# Altium footprint library Passives.PcbLib: 126 footprints (part 6 of 8)
Each footprint in its own frame and in the unit in brackets; x right, y up, seen from the top. Pads: shape width x height; smd on the part's side, far side on the other; paste and mask are expansions set on the pad; w line width, h text height; cw(c..) or ccw(c..) is an arc to the next point about the centre after c.
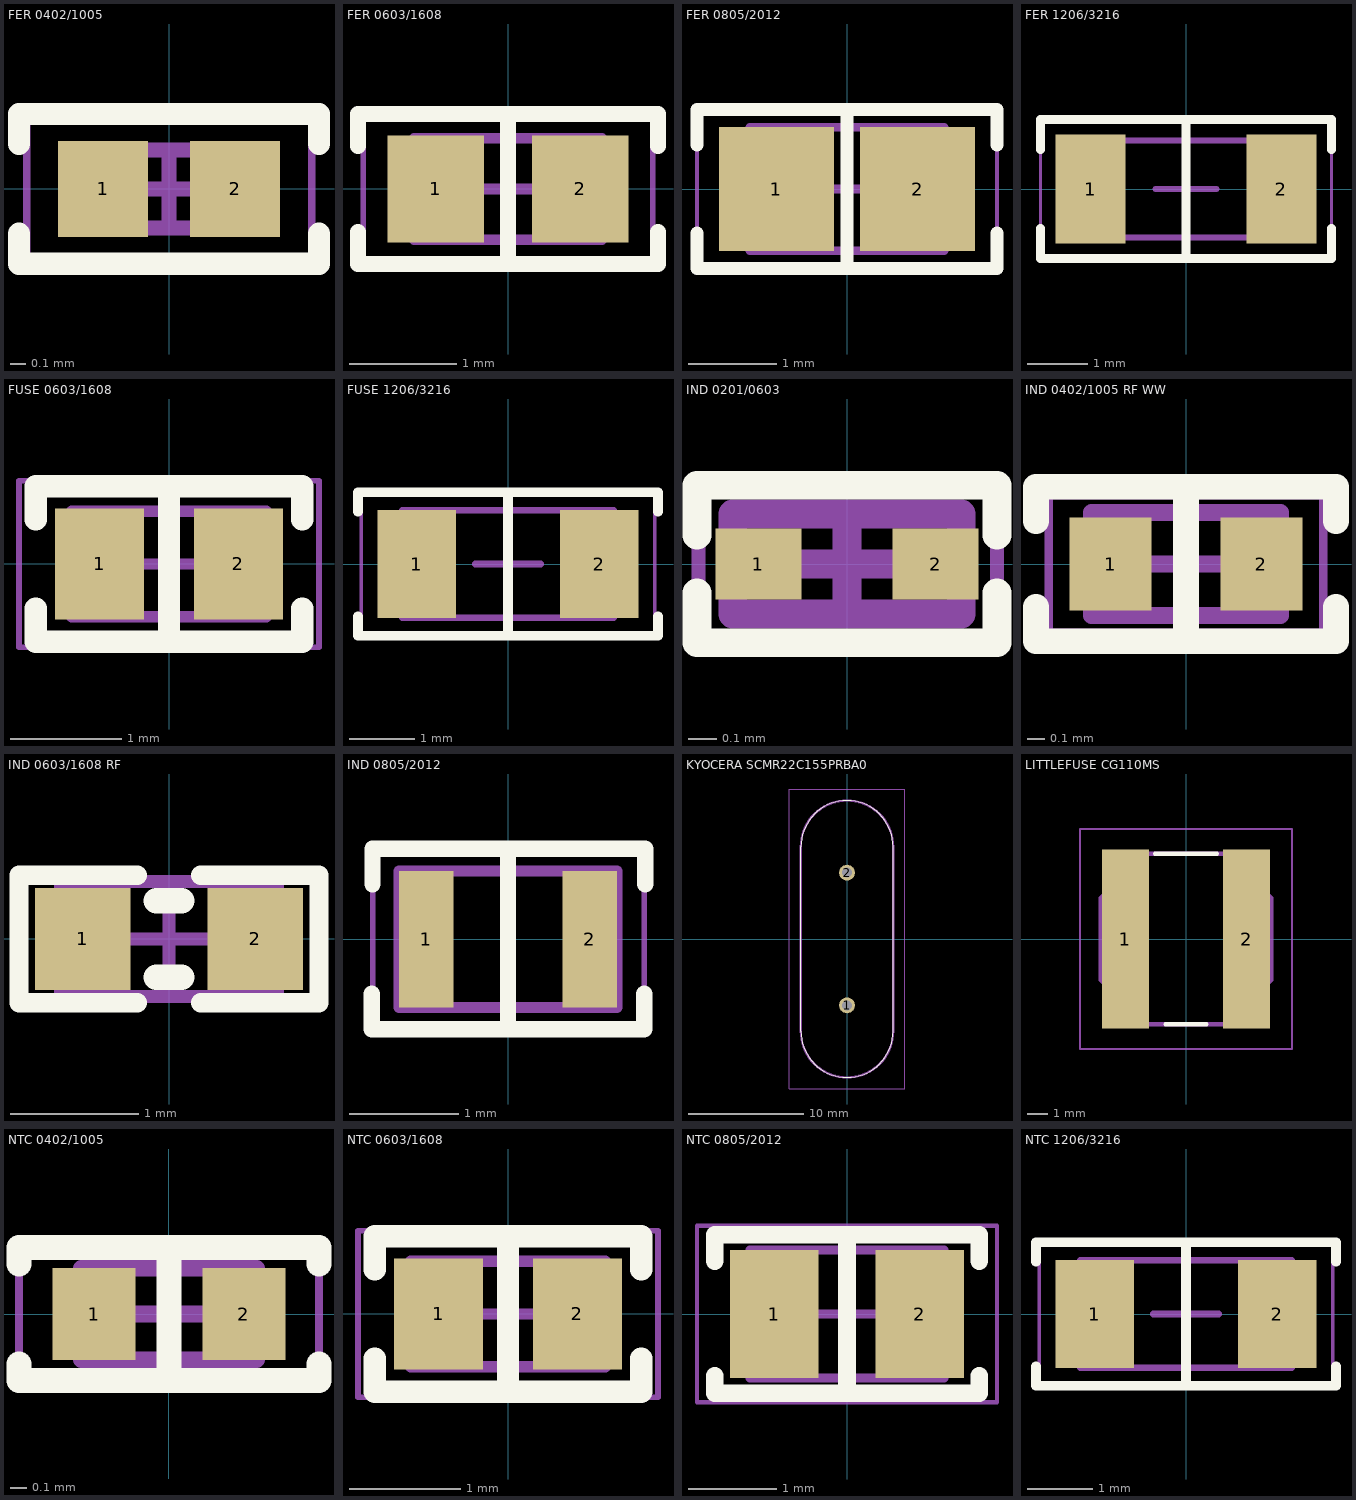
[diagram p5: the footprints below, top view; thin cyan lines are the x and y axes]

## FER 0402/1005 [mm] "Chip Ferrite, 2-Leads, Body 1.02x0.51mm, IPC Medium Density"
height 0.52
pads (2):
  rect 0.6x0.64 smd: 1(-0.44,0) 2(0.44,0)
Top Overlay:
  lines w0.15: -1,-0.3 -1,-0.5 1,-0.5 1,-0.3 ; -1,0.3 -1,0.5 1,0.5 1,0.3
Top Component Outline:
  lines w0.1: -0.515,-0.26 -0.515,0.26 0.515,0.26 0.515,-0.26 -0.515,-0.26
Top Courtyard:
  lines w0.05: -0.95,-0.5 -0.95,0.5 0.95,0.5 0.95,-0.5 -0.95,-0.5
  lines w0.1: -0.26,0 0.26,0 ; 0,-0.26 0,0.26
3D body "FER 0402.STEP": height 0.52, standoff 0, extent -0.5,-0.262 0.5,0.262

## FER 0603/1608 [mm] "Chip Ferrite, 2-Leads, Body 1.60x0.80mm, IPC Medium Density"
height 0.89
pads (2):
  rect 0.9x1 smd: 1(-0.675,0) 2(0.675,0)
Top Overlay:
  lines w0.15: -1.4,-0.4 -1.4,-0.7 1.4,-0.7 1.4,-0.4 ; -1.4,0.4 -1.4,0.7 1.4,0.7 1.4,0.4 ; 0,-0.7 0,0.7
Top Component Outline:
  lines w0.1: -0.875,-0.475 0.875,-0.475 0.875,0.475 -0.875,0.475 -0.875,-0.475
Top Courtyard:
  lines w0.05: -1.35,-0.75 1.35,-0.75 1.35,0.75 -1.35,0.75 -1.35,-0.75
  lines w0.1: -0.475,0 0.475,0 ; 0,-0.475 0,0.475
3D body "FER 0603.STEP": height 0.82, standoff 0, extent -0.8,-0.412 0.8,0.412

## FER 0805/2012 [mm] "Chip Ferrite, 2-Leads, Body 2.00x1.20mm, IPC Medium Density"
height 1.15
pads (2):
  rect 1.3x1.4 smd: 1(-0.8,0) 2(0.8,0)
Top Overlay:
  lines w0.15: -1.7,-0.5 -1.7,-0.9 1.7,-0.9 1.7,-0.5 ; -1.7,0.5 -1.7,0.9 1.7,0.9 1.7,0.5 ; 0,-0.9 0,0.9
Top Component Outline:
  lines w0.1: -1.1,-0.7 1.1,-0.7 1.1,0.7 -1.1,0.7 -1.1,-0.7
Top Courtyard:
  lines w0.05: -1.7,-0.95 1.7,-0.95 1.7,0.95 -1.7,0.95 -1.7,-0.95
  lines w0.1: -0.5,0 0.5,0 ; 0,-0.5 0,0.5
3D body "FER 0805.STEP": height 1.26, standoff -0.02, extent -1,-0.637 1,0.637

## FER 1206/3216 [mm]
pads (2):
  rect 1.15x1.8 smd: 1(-1.575,0) 2(1.575,0)
Top Overlay:
  lines w0.15: -2.4,-0.65 -2.4,-1.15 2.4,-1.15 2.4,-0.65 ; -2.4,0.65 -2.4,1.15 2.4,1.15 2.4,0.65 ; 0,-1.125 0,1.125
Top Component Outline:
  lines w0.1: -1.6,-0.8 -1.6,0.8 1.6,0.8 1.6,-0.8 -1.6,-0.8
Top Courtyard:
  lines w0.05: -2.4,-1.15 -2.4,1.15 2.4,1.15 2.4,-1.15 -2.4,-1.15
  lines w0.1: -0.5,0 0.5,0 ; 0,-0.5 0,0.5
3D body "BLM31KN102BH1L.stp": height 1.6, standoff 0, extent -1.6,-0.8 1.6,0.8

## FUSE 0603/1608 [mm] "NTC Thermistor, 2-Leads, Body 1.60x0.80mm, IPC Medium Density"
height 0.95
pads (2):
  rect 0.8x1 smd: 1(-0.625,0) 2(0.625,0)
Top Overlay:
  lines w0.2: -1.2,-0.4 -1.2,-0.7 1.2,-0.7 1.2,-0.4 ; -1.2,0.4 -1.2,0.7 1.2,0.7 1.2,0.4 ; 0,-0.7 0,0.7
Top Component Outline:
  lines w0.1: -0.875,-0.475 -0.875,0.475 0.875,0.475 0.875,-0.475 -0.875,-0.475
Top Courtyard:
  lines w0.05: -1.35,-0.75 -1.35,0.75 1.35,0.75 1.35,-0.75 -1.35,-0.75
  lines w0.1: -0.475,0 0.475,0 ; 0,-0.475 0,0.475
3D body "FUSE 0603.step": height 0.53, standoff 0, extent -0.825,-0.425 0.825,0.425

## FUSE 1206/3216 [mm] "Chip Resistor, 2-Leads, Body 3.13x1.55mm, IPC Medium Density"
height 0.7
pads (2):
  rect 1.2x1.65 smd: 1(-1.4,0) 2(1.4,0)
Top Overlay:
  lines w0.15: -2.3,-0.8 -2.3,-1.1 2.3,-1.1 2.3,-0.8 ; -2.3,0.8 -2.3,1.1 2.3,1.1 2.3,0.8 ; 0,-1.1 0,1.1
Top Component Outline:
  lines w0.1: -1.625,-0.825 -1.625,0.825 1.625,0.825 1.625,-0.825 -1.625,-0.825
Top Courtyard:
  lines w0.05: -2.25,-1.1 -2.25,1.1 2.25,1.1 2.25,-1.1 -2.25,-1.1
  lines w0.1: -0.5,0 0.5,0 ; 0,-0.5 0,0.5
3D body "NTC 1206.step": height 0.8, standoff 0, extent -1.7,-0.85 1.7,0.85

## IND 0201/0603 [mm] "Chip Inductor, 2-Leads, Body 0.60x0.30mm, IPC Medium Density"
height 0.33
pads (2):
  rect 0.3x0.25 smd: 1(-0.31,0) 2(0.31,0)
Top Overlay:
  lines w0.1: -0.525,-0.1 -0.525,-0.275 0.525,-0.275 0.525,-0.1 ; -0.525,0.1 -0.525,0.275 0.525,0.275 0.525,0.1
Top Component Center:
  lines w0.1: -0.165,0 0.165,0 ; 0,-0.165 0,0.165
Top Component Outline:
  lines w0.1: -0.4,-0.175 -0.4,0.175 0.4,0.175 0.4,-0.175 -0.4,-0.175
Top Courtyard:
  lines w0.05: -0.52,-0.275 -0.52,0.275 0.525,0.275 0.525,-0.275 -0.52,-0.275
3D body "FER 0201.STEP": height 0.3, standoff 0, extent -0.3,-0.15 0.3,0.15

## IND 0402/1005 RF WW [mm] "Chip Inductor, 2-Leads, Body 1.00x0.50mm, IPC High Density"
height 0.6
pads (2):
  rect 0.48x0.54 smd: 1(-0.44,0) 2(0.44,0)
Top Overlay:
  lines w0.15: -0.875,-0.25 -0.875,-0.45 0.875,-0.45 0.875,-0.25 ; -0.875,0.25 -0.875,0.45 0.875,0.45 0.875,0.25 ; 0,-0.45 0,0.45
Top Component Center:
  lines w0.1: -0.3,0 0.3,0 ; 0,-0.3 0,0.3
Top Component Outline:
  lines w0.1: -0.55,-0.3 0.55,-0.3 0.55,0.3 -0.55,0.3 -0.55,-0.3
Top Courtyard:
  lines w0.05: -0.8,-0.4 0.8,-0.4 0.8,0.4 -0.8,0.4 -0.8,-0.4
3D body "IND-WireWound.STEP": height 0.5, standoff 0, extent -0.5,-0.276 0.5,0.277
3D body "IND-WireWound_TOP.STEP": height 0.51, standoff 0.26, extent -0.5,-0.287 0.5,0.287

## IND 0603/1608 RF [mm] "Chip Inductor, 2-Leads, Body 1.00x0.50mm, IPC High Density"
height 0.6
pads (2):
  rect 0.75x0.8 smd: 1(-0.675,0) 2(0.675,0)
Top Overlay:
  lines w0.152: -0.25,-0.5 -1.175,-0.5 -1.175,0.5 -0.25,0.5 ; 0.25,-0.5 1.175,-0.5 1.175,0.5 0.25,0.5
  lines w0.2: -0.1,-0.3 0.1,-0.3 ; -0.1,0.3 0.1,0.3
Top Component Center:
  lines w0.1: -0.45,0 0.45,0 ; 0,-0.45 0,0.45
Top Component Outline:
  lines w0.1: -0.85,-0.45 -0.85,0.45 0.85,0.45 0.85,-0.45 -0.85,-0.45
3D body "User Library-Chip Inductor.step": height 0.8, standoff 0, extent -0.8,-0.475 0.8,0.475

## IND 0805/2012 [mm]
pads (2):
  rect 0.5x1.25 smd: 1(-0.75,0) 2(0.75,0)
Top Overlay:
  lines w0.15: -1.25,-0.5 -1.25,-0.825 1.25,-0.825 1.25,-0.5 ; -1.242,0.503 -1.242,0.828 1.258,0.828 1.258,0.503 ; 0,-0.825 0,0.819
Top Component Outline:
  lines w0.1: -1,-0.625 1,-0.625 1,0.625 -1,0.625 -1,-0.625
Top Courtyard:
  lines w0.05: -1.242,-0.825 1.25,-0.825 1.25,0.828 -1.242,0.828 -1.242,-0.825
3D body "FER 0805.STEP": height 1.29, standoff 0.01, extent -1,-0.65 1,0.624

## KYOCERA SCMR22C155PRBA0 [mm] "Super Capacitor"
pads (2):
  round 1.381 hole 0.85: 1(0,-5.75) 2(0,5.75)
Top Overlay:
  lines w0.1: -4,-8 ccw(c0,-8) 4,-8 4,8 ccw(c0,8) -4,8 -4,-8
Top Component Outline:
  lines w0.2: -4,-8 ccw(c0,-8) 4,-8 4,8 ccw(c0,8) -4,8 -4,-8
Top Courtyard:
  lines w0.1: -5,-13 -5,13 5,13 5,-13 -5,-13
3D body "AVX SCMR22C155PRBA0.step": height 24, standoff -3, extent -4.531,-8.426 4.469,8.561

## LITTLEFUSE CG110MS [mm]
pads (2):
  rect 2.29x8.71 smd: 1(-2.945,0) 2(2.945,0)
Top Overlay:
  lines w0.2: -1.5,4.15 1.5,4.15 ; -1,-4.15 1,-4.15
Top Component Outline:
  lines w0.2: -4.15,-2 -4.15,2 -2,4.15 -1.8,4.15 2,4.15 4.15,2 4.15,-2 2,-4.15 -2,-4.15 -4.15,-2
Top Courtyard:
  lines w0.1: -5.15,-5.355 -5.15,5.355 5.15,5.355 5.15,-5.355 -5.15,-5.355

## NTC 0402/1005 [mm] "Chip Thermistor, 2-Leads, Body 1.00x0.50mm, IPC Medium Density"
height 0.55
pads (2):
  rect 0.5x0.55 smd: 1(-0.45,0) 2(0.45,0)
Top Overlay:
  lines w0.15: -0.9,-0.3 -0.9,-0.4 0,-0.4 ; -0.9,0.3 -0.9,0.4 -0.2,0.4 0.9,0.4 0.9,0.3 ; 0,0.4 0,-0.4 ; 0.9,-0.3 0.9,-0.4 0,-0.4
Top Component Outline:
  lines w0.1: -0.525,-0.275 -0.525,0.275 0.525,0.275 0.525,-0.275 -0.525,-0.275
Top Courtyard:
  lines w0.05: -0.9,-0.45 -0.9,0.45 0.9,0.45 0.9,-0.45 -0.9,-0.45
  lines w0.1: -0.275,0 0.275,0 ; 0,-0.275 0,0.275
3D body "NTC 0402.STEP": height 0.52, standoff 0, extent -0.5,-0.262 0.5,0.262

## NTC 0603/1608 [mm] "NTC Thermistor, 2-Leads, Body 1.60x0.80mm, IPC Medium Density"
height 0.95
pads (2):
  rect 0.8x1 smd: 1(-0.625,0) 2(0.625,0)
Top Overlay:
  lines w0.2: -1.2,-0.4 -1.2,-0.7 1.2,-0.7 1.2,-0.4 ; -1.2,0.4 -1.2,0.7 1.2,0.7 1.2,0.4 ; 0,-0.7 0,0.7
Top Component Outline:
  lines w0.1: -0.875,-0.475 -0.875,0.475 0.875,0.475 0.875,-0.475 -0.875,-0.475
Top Courtyard:
  lines w0.05: -1.35,-0.75 -1.35,0.75 1.35,0.75 1.35,-0.75 -1.35,-0.75
  lines w0.1: -0.475,0 0.475,0 ; 0,-0.475 0,0.475
3D body "NTC 0603.STEP": height 0.82, standoff 0, extent -0.8,-0.412 0.8,0.412

## NTC 0805/2012 [mm] "Chip Thermistor, 2-Leads, Body 2.00x1.25mm, IPC Medium Density"
height 1
pads (2):
  rect 1x1.45 smd: 1(-0.825,0) 2(0.825,0)
Top Overlay:
  lines w0.2: -1.5,-0.7 -1.5,-0.9 1.5,-0.9 1.5,-0.7 ; -1.5,0.6 -1.5,0.9 1.5,0.9 1.5,0.6 ; 0,-0.9 0,0.9
Top Component Outline:
  lines w0.1: -1.1,-0.725 -1.1,0.725 1.1,0.725 1.1,-0.725 -1.1,-0.725
Top Courtyard:
  lines w0.05: -1.7,-1 -1.7,1 1.7,1 1.7,-1 -1.7,-1
  lines w0.1: -0.5,0 0.5,0 ; 0,-0.5 0,0.5
3D body "NTC 0805.STEP": height 1.27, standoff 0, extent -1,-0.637 1,0.637

## NTC 1206/3216 [mm] "Chip Resistor, 2-Leads, Body 3.13x1.55mm, IPC Medium Density"
height 0.7
pads (2):
  rect 1.2x1.65 smd: 1(-1.4,0) 2(1.4,0)
Top Overlay:
  lines w0.15: -2.3,-0.8 -2.3,-1.1 2.3,-1.1 2.3,-0.8 ; -2.3,0.8 -2.3,1.1 2.3,1.1 2.3,0.8 ; 0,-1.1 0,1.1
Top Component Outline:
  lines w0.1: -1.625,-0.825 -1.625,0.825 1.625,0.825 1.625,-0.825 -1.625,-0.825
Top Courtyard:
  lines w0.05: -2.25,-1.1 -2.25,1.1 2.25,1.1 2.25,-1.1 -2.25,-1.1
  lines w0.1: -0.5,0 0.5,0 ; 0,-0.5 0,0.5
3D body "NTC 1206.step": height 0.8, standoff 0, extent -1.7,-0.85 1.7,0.85